# Altium schematic symbol library WCAP-FTXX.SchLib: 109 symbols (part 3 of 3)
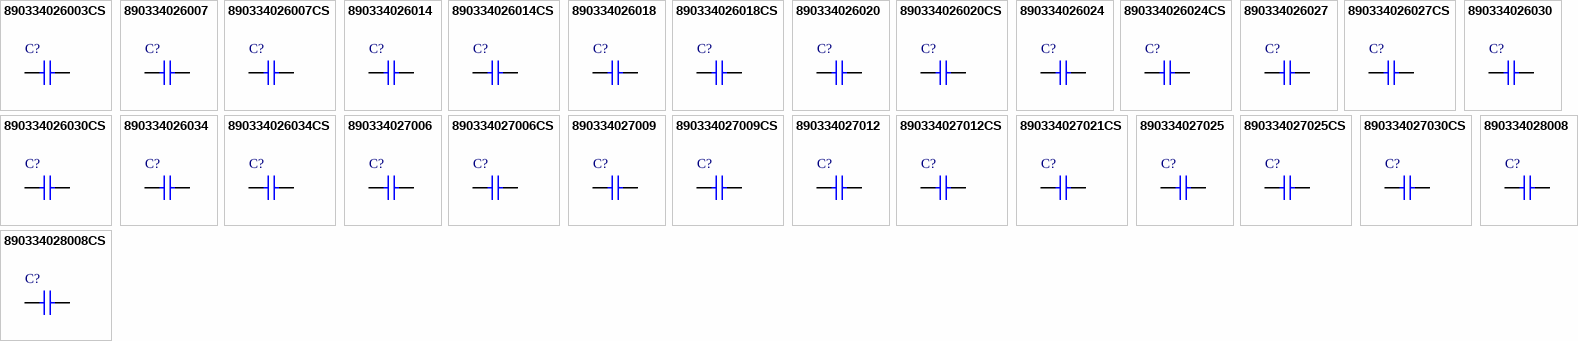
[diagram p4: symbols 890334026003CS to 890334028008CS]

## 890334027030CS
designator C?, comment 4.7µF  (value not drawn)
WCAP-FTXX Film Capacitor, THT, 31mm x 19mm x 32.5mm, 4.7µF, 310V; Manufacturer Part Number: 890334027030CS; Manufacturer: Wurth Elektronik; Dissipation Factor @1kHz: 0.1%; Insulation Resistance: 2.13GΩ; Rate of Voltage Rise: 140V/µs; Safety Class: X2; Category: Film Capacitors; Match Code: WCAP-FTXX; ComponentLink1Description: Website Link; ComponentLink1URL: https://www.we-online.com/redexpert/article/890334027030CS?ad; ComponentLink2Description: Datasheet Link; ComponentLink2URL: https://www.we-online.com/redexpert/spec/890334027030CS?ad; Mount: Through Hole; Min Operating Temperature: -40°C; Max Operating Temperature: 105°C; Packaging: Bulk; Length: 31mm; Width: 19mm; Height: 32.5mm; Application: Across the mains; Capacitance: 4.7µF; Lead Pitch: 27.5mm; Rated Voltage (AC): 310V
footprint WCAP-FTXX_L31W19H32.5
simulation model 890334027030CS_4.7uF
pins: 1, 2

## 890334028008
designator C?, comment 6.8µF  (value not drawn)
WCAP-FTXX Film Capacitor, THT, 41.5mm x 22.5mm x 35.5mm, 6.8µF, 310V; Manufacturer Part Number: 890334028008; Manufacturer: Wurth Elektronik; Dissipation Factor @1kHz: 0.1%; Insulation Resistance: 1.47GΩ; Rate of Voltage Rise: 110V/µs; Safety Class: X2; Category: Film Capacitors; Match Code: WCAP-FTXX; ComponentLink1Description: Website Link; ComponentLink1URL: https://www.we-online.com/redexpert/article/890334028008?ad; ComponentLink2Description: Datasheet Link; ComponentLink2URL: https://www.we-online.com/redexpert/spec/890334028008?ad; Mount: Through Hole; Min Operating Temperature: -40°C; Max Operating Temperature: 105°C; Packaging: Bulk; Length: 41.5mm; Width: 22.5mm; Height: 35.5mm; Application: Across the mains; Capacitance: 6.8µF; Lead Pitch: 37.5mm; Rated Voltage (AC): 310V
footprint WCAP-FTXX_L41.5W22.5H35.5
simulation model 890334028008_6.8uF
pins: 1, 2

## 890334028008CS
designator C?, comment 6.8µF  (value not drawn)
WCAP-FTXX Film Capacitor, THT, 41.5mm x 22.5mm x 35.5mm, 6.8µF, 310V; Manufacturer Part Number: 890334028008CS; Manufacturer: Wurth Elektronik; Dissipation Factor @1kHz: 0.1%; Insulation Resistance: 1.47GΩ; Rate of Voltage Rise: 110V/µs; Safety Class: X2; Category: Film Capacitors; Match Code: WCAP-FTXX; ComponentLink1Description: Website Link; ComponentLink1URL: https://www.we-online.com/redexpert/article/890334028008CS?ad; ComponentLink2Description: Datasheet Link; ComponentLink2URL: https://www.we-online.com/redexpert/spec/890334028008CS?ad; Mount: Through Hole; Min Operating Temperature: -40°C; Max Operating Temperature: 105°C; Packaging: Bulk; Length: 41.5mm; Width: 22.5mm; Height: 35.5mm; Application: Across the mains; Capacitance: 6.8µF; Lead Pitch: 37.5mm; Rated Voltage (AC): 310V
footprint WCAP-FTXX_L41.5W22.5H35.5
simulation model 890334028008CS_6.8uF
pins: 1, 2